# Altium footprint library OLD_MainBoard.PcbLib: 27 footprints (part 2 of 2)
Each footprint in its own frame and in the unit in brackets; x right, y up, seen from the top. Pads: shape width x height; smd on the part's side, far side on the other; paste and mask are expansions set on the pad; w line width, h text height; cw(c..) or ccw(c..) is an arc to the next point about the centre after c.
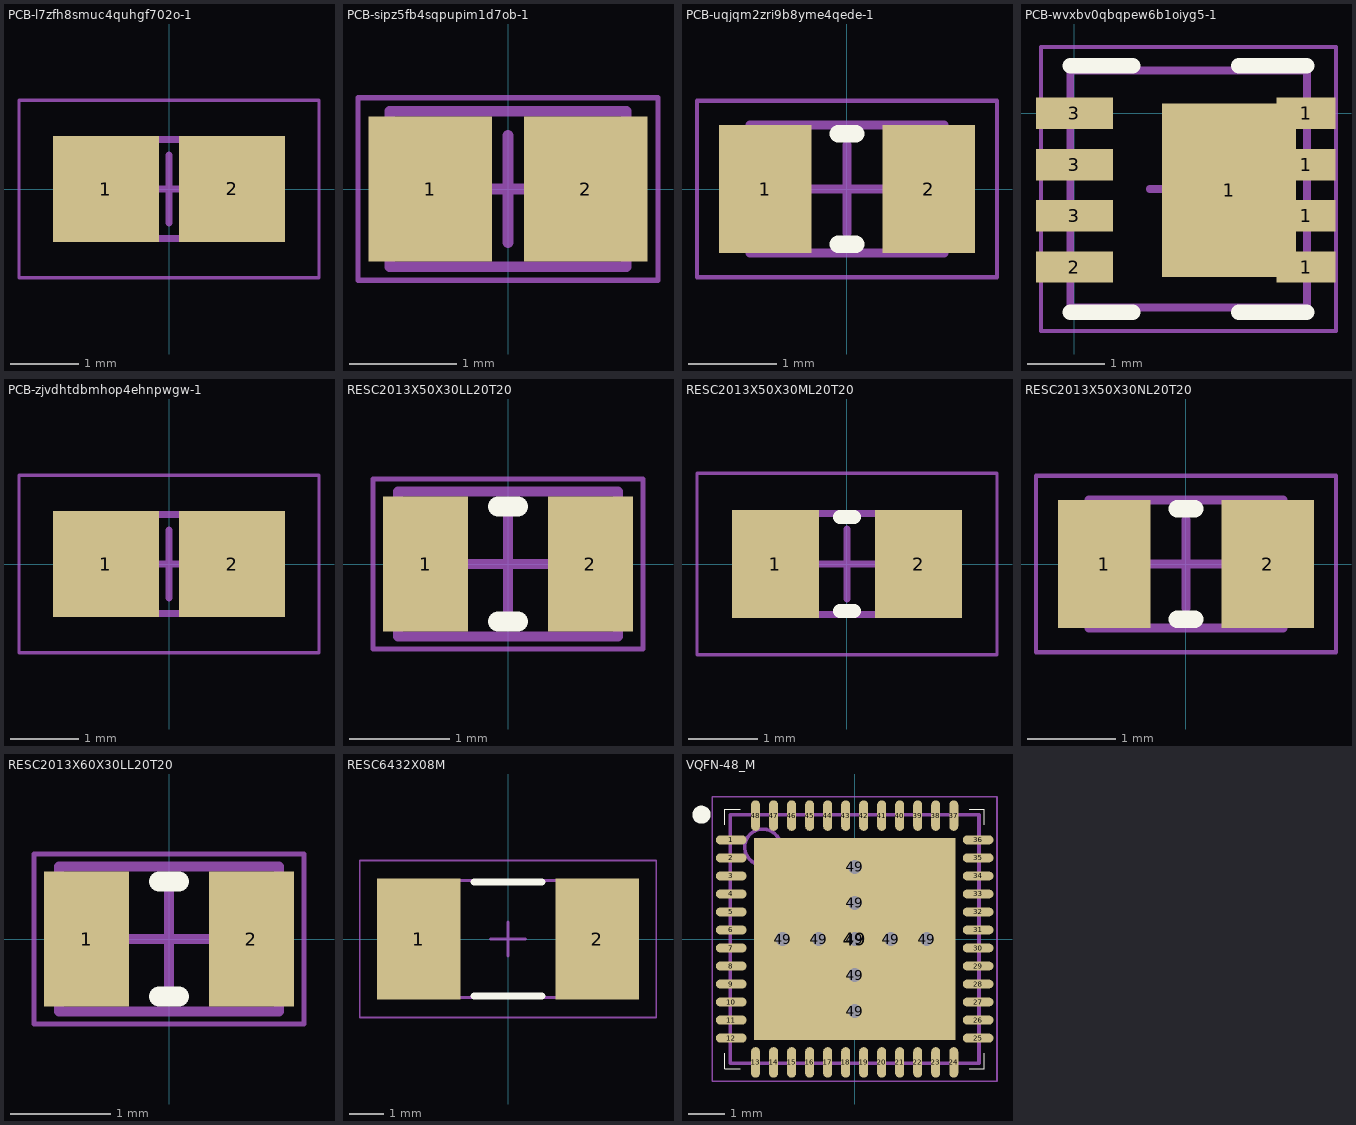
[diagram p1: the footprints below, top view; thin cyan lines are the x and y axes]

## PCB-l7zfh8smuc4quhgf702o-1 [mm] "CAPC2013X94X50ML20T25"
height 0.94
pads (2):
  rect 1.55x1.55 smd: 1(-0.925,0) 2(0.925,0)
Mechanical 13:
  lines w0.1: -1.105,-0.725 -1.105,0.725 1.105,0.725 1.105,-0.725 -1.105,-0.725
Mechanical 15:
  lines w0.05: -2.2,-1.3 -2.2,1.3 2.2,1.3 2.2,-1.3 -2.2,-1.3
  lines w0.1: -0.5,0 0.5,0 ; 0,-0.5 0,0.5
3D body: height 0.94, standoff 0, extent -0.605,-0.725 0.605,0.725
3D body: height 0.94, standoff 0, extent -1.105,-0.725 -0.605,0.725
3D body: height 0.94, standoff 0, extent 0.605,-0.725 1.105,0.725

## PCB-sipz5fb4sqpupim1d7ob-1 [mm] "CAPC2013X94X50LL20T25"
height 0.94
pads (2):
  rect 1.15x1.35 smd: 1(-0.725,0) 2(0.725,0)
Mechanical 13:
  lines w0.1: -1.105,-0.725 -1.105,0.725 1.105,0.725 1.105,-0.725 -1.105,-0.725
Mechanical 15:
  lines w0.05: -1.4,-0.85 -1.4,0.85 1.4,0.85 1.4,-0.85 -1.4,-0.85
  lines w0.1: -0.5,0 0.5,0 ; 0,-0.5 0,0.5
3D body: height 0.94, standoff 0, extent -0.605,-0.725 0.605,0.725
3D body: height 0.94, standoff 0, extent -1.105,-0.725 -0.605,0.725
3D body: height 0.94, standoff 0, extent 0.605,-0.725 1.105,0.725

## PCB-uqjqm2zri9b8yme4qede-1 [mm] "RESC2013X50X30NL20T20"
height 0.5
pads (2):
  rect 1.05x1.45 smd: 1(-0.925,0) 2(0.925,0)
Top Overlay:
  lines w0.2: -0.1,-0.625 0.1,-0.625 ; -0.1,0.625 0.1,0.625
Mechanical 13:
  lines w0.1: -1.1,-0.725 -1.1,0.725 1.1,0.725 1.1,-0.725 -1.1,-0.725
Mechanical 15:
  lines w0.05: -1.7,-1 -1.7,1 1.7,1 1.7,-1 -1.7,-1
  lines w0.1: -0.5,0 0.5,0 ; 0,-0.5 0,0.5
3D body: height 0.5, standoff 0, extent -0.8,-0.725 0.8,0.725
3D body: height 0.5, standoff 0, extent -1.1,-0.725 -0.8,0.725
3D body: height 0.5, standoff 0, extent 0.8,-0.725 1.1,0.725

## PCB-wvxbv0qbqpew6b1oiyg5-1 [mm] "DFN, 8-Leads, Body 3.05x3.05mm, Pitch 0.65mm"
height 0.8
pads (9):
  rect 1.725x2.235 smd: 1(1.993,-0.99)
  rect 0.76x0.405 smd: 1(2.985,-1.98) 1(2.985,-1.32) 1(2.985,-0.66) 1(2.985,0)
  rect 0.99x0.405 smd: 2(0,-1.98) 3(0,-1.32) 3(0,-0.66) 3(0,0)
Top Overlay:
  lines w0.2: -0.055,-2.56 0.75,-2.56 ; -0.055,0.61 0.75,0.61 ; 2.12,-2.56 2.995,-2.56 ; 2.12,0.61 2.995,0.61
Mechanical 13:
  lines w0.1: -0.055,-2.5 2.995,-2.5 2.995,0.55 -0.055,0.55 -0.055,-2.5
Mechanical 15:
  lines w0.05: -0.43,-2.805 3.37,-2.805 3.37,0.855 -0.43,0.855 -0.43,-2.805
  lines w0.1: 0.97,-0.975 1.97,-0.975 ; 1.47,-1.475 1.47,-0.475
3D body: height 1.12, standoff 0, extent -0.055,-2.5 2.995,0.55

## PCB-zjvdhtdbmhop4ehnpwgw-1 [mm] "CAPC2013X94X50ML20T25"
height 0.94
pads (2):
  rect 1.55x1.55 smd: 1(-0.925,0) 2(0.925,0)
Mechanical 13:
  lines w0.1: -1.105,-0.725 -1.105,0.725 1.105,0.725 1.105,-0.725 -1.105,-0.725
Mechanical 15:
  lines w0.05: -2.2,-1.3 -2.2,1.3 2.2,1.3 2.2,-1.3 -2.2,-1.3
  lines w0.1: -0.5,0 0.5,0 ; 0,-0.5 0,0.5
3D body: height 0.94, standoff 0, extent -0.605,-0.725 0.605,0.725
3D body: height 0.94, standoff 0, extent -1.105,-0.725 -0.605,0.725
3D body: height 0.94, standoff 0, extent 0.605,-0.725 1.105,0.725

## RESC2013X50X30LL20T20 [mm] "RESC2013X50X30LL20T20"
height 0.5
pads (2):
  rect 0.85x1.35 smd: 1(-0.825,0) 2(0.825,0)
Top Overlay:
  lines w0.2: -0.1,-0.575 0.1,-0.575 ; -0.1,0.575 0.1,0.575
Mechanical 13:
  lines w0.1: -1.1,-0.725 -1.1,0.725 1.1,0.725 1.1,-0.725 -1.1,-0.725
Mechanical 15:
  lines w0.05: -1.35,-0.85 -1.35,0.85 1.35,0.85 1.35,-0.85 -1.35,-0.85
  lines w0.1: -0.5,0 0.5,0 ; 0,-0.5 0,0.5
3D body: height 0.5, standoff 0, extent -0.8,-0.725 0.8,0.725
3D body: height 0.5, standoff 0, extent -1.1,-0.725 -0.8,0.725
3D body: height 0.5, standoff 0, extent 0.8,-0.725 1.1,0.725

## RESC2013X50X30ML20T20 [mm] "RESC2013X50X30ML20T20"
height 0.5
pads (2):
  rect 1.25x1.55 smd: 1(-1.025,0) 2(1.025,0)
Top Overlay:
  lines w0.2: -0.1,-0.675 0.1,-0.675 ; -0.1,0.675 0.1,0.675
Mechanical 13:
  lines w0.1: -1.1,-0.725 -1.1,0.725 1.1,0.725 1.1,-0.725 -1.1,-0.725
Mechanical 15:
  lines w0.05: -2.15,-1.3 -2.15,1.3 2.15,1.3 2.15,-1.3 -2.15,-1.3
  lines w0.1: -0.5,0 0.5,0 ; 0,-0.5 0,0.5
3D body: height 0.5, standoff 0, extent -0.8,-0.725 0.8,0.725
3D body: height 0.5, standoff 0, extent -1.1,-0.725 -0.8,0.725
3D body: height 0.5, standoff 0, extent 0.8,-0.725 1.1,0.725

## RESC2013X50X30NL20T20 [mm] "RESC2013X50X30NL20T20"
height 0.5
pads (2):
  rect 1.05x1.45 smd: 1(-0.925,0) 2(0.925,0)
Top Overlay:
  lines w0.2: -0.1,-0.625 0.1,-0.625 ; -0.1,0.625 0.1,0.625
Mechanical 13:
  lines w0.1: -1.1,-0.725 -1.1,0.725 1.1,0.725 1.1,-0.725 -1.1,-0.725
Mechanical 15:
  lines w0.05: -1.7,-1 -1.7,1 1.7,1 1.7,-1 -1.7,-1
  lines w0.1: -0.5,0 0.5,0 ; 0,-0.5 0,0.5
3D body: height 0.5, standoff 0, extent -0.8,-0.725 0.8,0.725
3D body: height 0.5, standoff 0, extent -1.1,-0.725 -0.8,0.725
3D body: height 0.5, standoff 0, extent 0.8,-0.725 1.1,0.725

## RESC2013X60X30LL20T20 [mm] "RESC2013X60X30LL20T20"
height 0.6
pads (2):
  rect 0.85x1.35 smd: 1(-0.825,0) 2(0.825,0)
Top Overlay:
  lines w0.2: -0.1,-0.575 0.1,-0.575 ; -0.1,0.575 0.1,0.575
Mechanical 13:
  lines w0.1: -1.1,-0.725 -1.1,0.725 1.1,0.725 1.1,-0.725 -1.1,-0.725
Mechanical 15:
  lines w0.05: -1.35,-0.85 -1.35,0.85 1.35,0.85 1.35,-0.85 -1.35,-0.85
  lines w0.1: -0.5,0 0.5,0 ; 0,-0.5 0,0.5
3D body: height 0.6, standoff 0, extent -0.8,-0.725 0.8,0.725
3D body: height 0.6, standoff 0, extent -1.1,-0.725 -0.8,0.725
3D body: height 0.6, standoff 0, extent 0.8,-0.725 1.1,0.725

## RESC6432X08M [mm] "Chip Resistor, 2-Leads, Body 6,38x3,18mm, IPC Low Density"
height 0.85
pads (2):
  rect 2.45x3.55 smd: 1(-2.625,0) 2(2.625,0)
Top Overlay:
  lines w0.2: -1,-1.675 1,-1.675 ; -1,1.675 1,1.675
Mechanical 13:
  lines w0.1: -3.3,-1.715 -3.3,1.715 3.3,1.715 3.3,-1.715 -3.3,-1.715
Mechanical 15:
  lines w0.05: -4.35,-2.3 -4.35,2.3 4.35,2.3 4.35,-2.3 -4.35,-2.3
  lines w0.1: -0.5,0 0.5,0 ; 0,-0.5 0,0.5
3D body: height 0.85, standoff 0, extent -2,-1.715 2,1.715
3D body: height 0.85, standoff 0, extent -3.3,-1.715 -2,1.715
3D body: height 0.85, standoff 0, extent 2,-1.715 3.3,1.715

## VQFN-48_M [mm] "QFN, 48-Leads, Body 7.08x7.08mm, Pitch 0.5mm, Thermal Pad 5.36x5.36mm, IPC Low Density"
height 1
pads (58):
  oval 0.85x0.25 smd: 1(-3.425,2.75) 2(-3.425,2.25) 3(-3.425,1.75) 4(-3.425,1.25) 5(-3.425,0.75) 6(-3.425,0.25) 7(-3.425,-0.25) 8(-3.425,-0.75) 9(-3.425,-1.25) 10(-3.425,-1.75) 11(-3.425,-2.25) 12(-3.425,-2.75) 25(3.425,-2.75) 26(3.425,-2.25) 27(3.425,-1.75) 28(3.425,-1.25) 29(3.425,-0.75) 30(3.425,-0.25) 31(3.425,0.25) 32(3.425,0.75) 33(3.425,1.25) 34(3.425,1.75) 35(3.425,2.25) 36(3.425,2.75)
  oval 0.25x0.85 smd: 13(-2.75,-3.425) 14(-2.25,-3.425) 15(-1.75,-3.425) 16(-1.25,-3.425) 17(-0.75,-3.425) 18(-0.25,-3.425) 19(0.25,-3.425) 20(0.75,-3.425) 21(1.25,-3.425) 22(1.75,-3.425) 23(2.25,-3.425) 24(2.75,-3.425) 37(2.75,3.425) 38(2.25,3.425) 39(1.75,3.425) 40(1.25,3.425) 41(0.75,3.425) 42(0.25,3.425) 43(-0.25,3.425) 44(-0.75,3.425) 45(-1.25,3.425) 46(-1.75,3.425) 47(-2.25,3.425) 48(-2.75,3.425)
  round 0.6 hole 0.381 paste-100 mask-100: 49(-2,0) 49(-1,0) 49(0,-2) 49(0,-1) 49(0,0) 49(0,1) 49(0,2) 49(1,0) 49(2,0)
  rect 5.6x5.6 smd paste-100: 49(0,0)
Top Overlay:
  circle w0.25: c-4.25,3.45 r0.125
  lines w0: -3.6,-3.175 -3.6,-3.6 -3.175,-3.6 ; -3.6,3.175 -3.6,3.6 -3.175,3.6 ; 3.175,-3.6 3.6,-3.6 3.6,-3.175 ; 3.175,3.6 3.6,3.6 3.6,3.175
Top Paste:
  rectangle: -2.4,0.4 -0.4,2.4
  rectangle: -2.4,-2.4 -0.4,-0.4
  rectangle: 0.4,-2.4 2.4,-0.4
  rectangle: 0.4,0.4 2.4,2.4
Top Solder:
  rectangle: -2.5,0.25 -0.25,2.5
  rectangle: 0.25,0.25 2.5,2.5
  rectangle: 0.25,-2.5 2.5,-0.25
  rectangle: -2.5,-2.5 -0.25,-0.25
Mechanical 13:
  circle w0.1: c-2.55,2.55 r0.5
  lines w0.1: -3.45,-3.45 -3.45,3.45 3.45,3.45 3.45,-3.45 -3.45,-3.45
Mechanical 15:
  lines w0.05: -3.95,-3.95 -3.95,3.95 3.95,3.95 3.95,-3.95 -3.95,-3.95
  lines w0.1: -0.5,0 0.5,0 ; 0,-0.5 0,0.5
3D body "UFQFPN48 (STM32F411).step": height 0.6, standoff 0, extent -3.47,-3.47 3.47,3.47